# Altium schematic symbol library ltc2955iddb_1_trmpbf.SchLib: 1 symbol
Pins are listed as number, name and electrical type; pins without a type are passive.

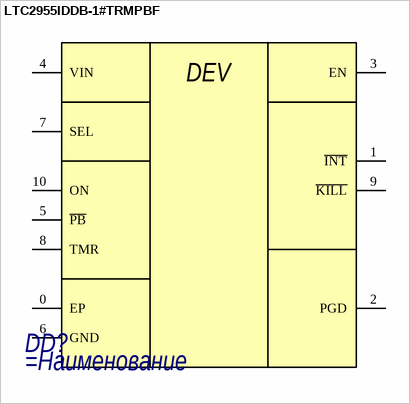
[diagram p0: symbol LTC2955IDDB-1#TRMPBF]

## LTC2955IDDB-1#TRMPBF
designator DD?
=Описание
pins: 0 EP, 1 ~{INT}, 2 PGD, 3 EN, 4 VIN, 5 ~{PB}, 6 GND, 7 SEL, 8 TMR, 9 ~{KILL}, 10 ON
text: DEV